# Altium schematic symbol library Transistor_FET.SchLib: 509 symbols (part 4 of 4)
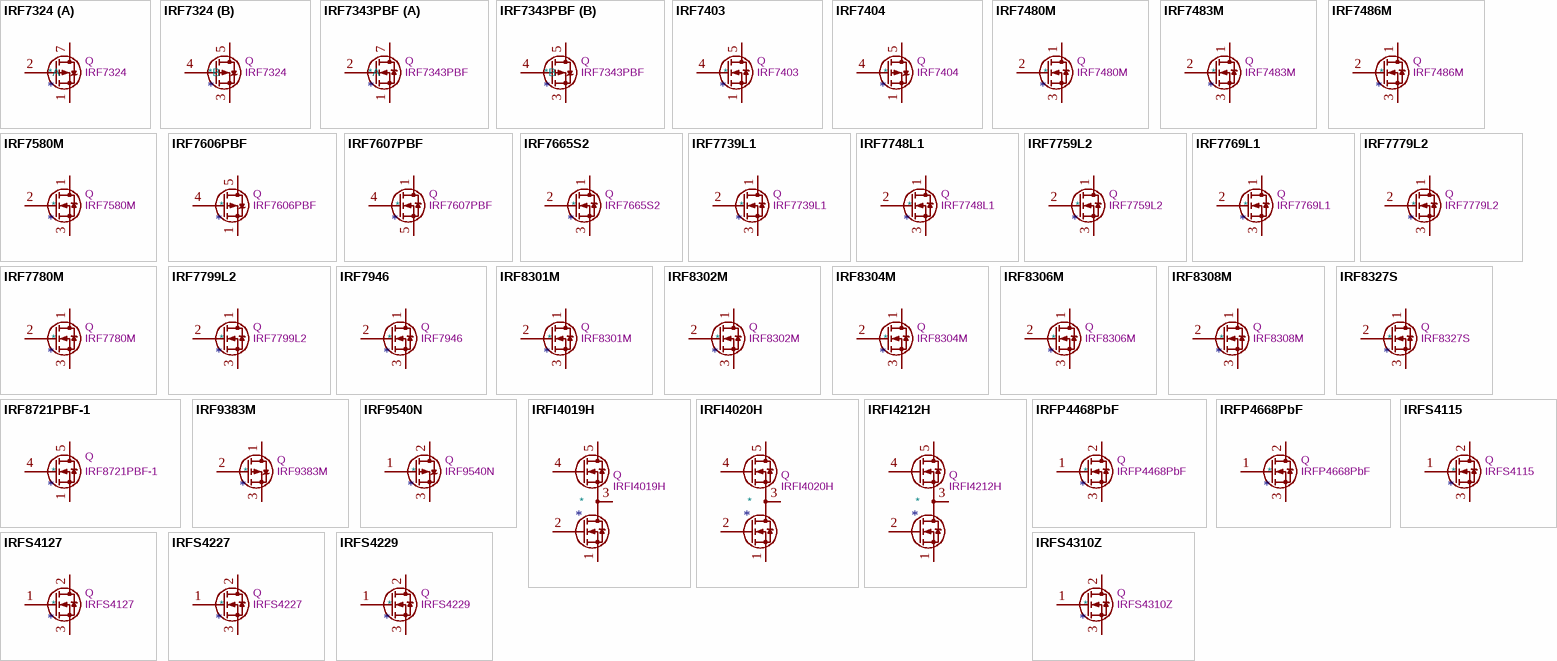
[diagram p16: symbols IRF7324 to IRFS4310Z]

## IRF8301M
designator *  value IRF8301M  Reference: Q
ki_keywords: N-Channel MOSFET; ki_description: 34A Id, 30V Vds, 1.5mOhm Rds, N-Channel MOSFET, DirectFET MT; ki_fp_filters: DirectFET*MT*; Footprint: Package_DirectFET:DirectFET_MT; Datasheet: https://www.infineon.com/dgdl/irf8301mpbf.pdf?fileId=5546d462533600a40153560d0e7a1d58
pins: 1 D, 2 G, 3 S

## IRF8302M
designator *  value IRF8302M  Reference: Q
ki_keywords: N-Channel MOSFET; ki_description: 31A Id, 30V Vds, 1.8mOhm Rds, N-Channel MOSFET, DirectFET MX; ki_fp_filters: DirectFET*MX*; Footprint: Package_DirectFET:DirectFET_MX; Datasheet: https://www.infineon.com/dgdl/irf8302mpbf.pdf?fileId=5546d462533600a40153560d16e41d5b
pins: 1 D, 2 G, 3 S

## IRF8304M
designator *  value IRF8304M  Reference: Q
ki_keywords: N-Channel MOSFET; ki_description: 28A Id, 30V Vds, 2.2mOhm Rds, N-Channel MOSFET, DirectFET MX; ki_fp_filters: DirectFET*MX*; Footprint: Package_DirectFET:DirectFET_MX; Datasheet: https://www.infineon.com/dgdl/irf8304mpbf.pdf?fileId=5546d462533600a40153560d20db1d5d
pins: 1 D, 2 G, 3 S

## IRF8306M
designator *  value IRF8306M  Reference: Q
ki_keywords: N-Channel MOSFET; ki_description: 23A Id, 30V Vds, 2.5mOhm Rds, N-Channel MOSFET, DirectFET MX; ki_fp_filters: DirectFET*MX*; Footprint: Package_DirectFET:DirectFET_MX; Datasheet: https://www.infineon.com/dgdl/irf8306mpbf.pdf?fileId=5546d462533600a40153560d29371d5f
pins: 1 D, 2 G, 3 S

## IRF8308M
designator *  value IRF8308M  Reference: Q
ki_keywords: N-Channel MOSFET; ki_description: 27A Id, 30V Vds, 2.5mOhm Rds, N-Channel MOSFET, DirectFET MX; ki_fp_filters: DirectFET*MX*; Footprint: Package_DirectFET:DirectFET_MX; Datasheet: https://www.infineon.com/dgdl/irf8308mpbf.pdf?fileId=5546d462533600a40153560d319d1d61
pins: 1 D, 2 G, 3 S

## IRF8327S
designator *  value IRF8327S  Reference: Q
ki_keywords: N-Channel MOSFET; ki_description: 13A Id, 30V Vds, 7.3mOhm Rds, N-Channel MOSFET, DirectFET SQ; ki_fp_filters: DirectFET*SQ*; Footprint: Package_DirectFET:DirectFET_SQ; Datasheet: https://www.infineon.com/dgdl/irf8327spbf.pdf?fileId=5546d462533600a40153560d40c41d65
pins: 1 D, 2 G, 3 S

## IRF8721PBF-1
designator *  value IRF8721PBF-1  Reference: Q
ki_keywords: HEXFET N-Channel MOSFET; ki_description: 14A Id, 30V Vds, HEXFET N-Channel MOSFET, SO-8; ki_fp_filters: SOIC*3.9x4.9mm*P1.27mm*; Footprint: Package_SO:SOIC-8_3.9x4.9mm_P1.27mm; Datasheet: http://www.irf.com/product-info/datasheets/data/irf8721pbf-1.pdf
pins: 1 S, 2 S hidden, 3 S hidden, 4 G, 5 D, 6 D hidden, 7 D hidden, 8 D hidden

## IRF9383M
designator *  value IRF9383M  Reference: Q
ki_keywords: P-Channel MOSFET; ki_description: -22A Id, -30V Vds, 2.9mOhm Rds, P-Channel MOSFET, DirectFET MX; ki_fp_filters: DirectFET*MX*; Footprint: Package_DirectFET:DirectFET_MX; Datasheet: https://www.infineon.com/dgdl/irf9383mpbf.pdf?fileId=5546d462533600a40153561169a11dab
pins: 1 D, 2 G, 3 S

## IRF9540N
designator *  value IRF9540N  Reference: Q
ki_keywords: P-Channel MOSFET HEXFET; ki_description: -23A Id, -100V Vds, 117mOhm Rds, P-Channel HEXFET Power MOSFET, TO-220; ki_fp_filters: TO?220*; Footprint: Package_TO_SOT_THT:TO-220-3_Vertical; Datasheet: http://www.irf.com/product-info/datasheets/data/irf9540n.pdf
pins: 1 G, 2 D, 3 S

## IRFI4019H
designator *  value IRFI4019H  Reference: Q
ki_keywords: Dual N-Channel MOSFET Half-Bridge; ki_description: 8.7A Id, 150V Vds, 80mOhm Rds, Dual Half Bridge N-Channel MOSFET, TO-220-5; ki_fp_filters: TO?220F*P3.4x2.06mm*StaggerEven*Lead1.86mm*; Footprint: Package_TO_SOT_THT:TO-220F-5_P3.4x2.06mm_StaggerEven_Lead1.86mm_Vertical; Datasheet: https://www.infineon.com/dgdl/irfi4019h-117p.pdf?fileId=5546d462533600a401535623d74d1f6f
pins: 1 S2, 2 G2, 3 S1/D2, 4 G1, 5 D1

## IRFI4020H
designator *  value IRFI4020H  Reference: Q
ki_keywords: Dual N-Channel MOSFET Half-Bridge; ki_description: 9.1A Id, 200V Vds, 80mOhm Rds, Dual Half Bridge N-Channel MOSFET, TO-220-5; ki_fp_filters: TO?220F*P3.4x2.06mm*StaggerEven*Lead1.86mm*; Footprint: Package_TO_SOT_THT:TO-220F-5_P3.4x2.06mm_StaggerEven_Lead1.86mm_Vertical; Datasheet: https://www.infineon.com/dgdl/irfi4020h-117p.pdf?fileId=5546d462533600a401535623e7271f73
pins: 1 S2, 2 G2, 3 S1/D2, 4 G1, 5 D1

## IRFI4212H
designator *  value IRFI4212H  Reference: Q
ki_keywords: Dual N-Channel MOSFET Half-Bridge; ki_description: 11A Id, 100V Vds, 58mOhm Rds, Dual Half Bridge N-Channel MOSFET, TO-220-5; ki_fp_filters: TO?220F*P3.4x2.06mm*StaggerEven*Lead1.86mm*; Footprint: Package_TO_SOT_THT:TO-220F-5_P3.4x2.06mm_StaggerEven_Lead1.86mm_Vertical; Datasheet: https://www.infineon.com/dgdl/irfi4212h-117p.pdf?fileId=5546d462533600a401535623fc841f7a
pins: 1 S2, 2 G2, 3 S1/D2, 4 G1, 5 D1

## IRFP4468PbF
designator *  value IRFP4468PbF  Reference: Q
ki_keywords: N-Channel Power MOSFET; ki_description: 195A Id, 100V Vds, N-Channel Power MOSFET, TO-247; ki_fp_filters: TO?247*; Footprint: Package_TO_SOT_THT:TO-247-3_Vertical; Datasheet: https://www.infineon.com/dgdl/irfp4468pbf.pdf?fileId=5546d462533600a40153562c73472019
pins: 1 G, 2 D, 3 S

## IRFP4668PbF
designator *  value IRFP4668PbF  Reference: Q
ki_keywords: N-Channel Power MOSFET; ki_description: 130A Id, 200V Vds, N-Channel Power MOSFET, TO-247; ki_fp_filters: TO?247*; Footprint: Package_TO_SOT_THT:TO-247-3_Vertical; Datasheet: https://www.infineon.com/dgdl/irfp4668pbf.pdf?fileId=5546d462533600a40153562c8528201d
pins: 1 G, 2 D, 3 S

## IRFS4115
designator *  value IRFS4115  Reference: Q
ki_keywords: N-Channel HEXFET MOSFET; ki_description: 99A Id, 150V Vds, 10.3mOhm Rds, N-Channel HEXFET Power MOSFET, D2PAK; ki_fp_filters: TO?263*; Footprint: Package_TO_SOT_SMD:TO-263-2; Datasheet: https://www.infineon.com/dgdl/irfs4115pbf.pdf?fileId=5546d462533600a401535636e5d2218f
pins: 1 G, 2 D, 3 S

## IRFS4127
designator *  value IRFS4127  Reference: Q
ki_keywords: N-Channel MOSFET; ki_description: 72A Id, 200V Vds, 18.6mOhm Rds, N-Channel MOSFET, 18.6mOhm Ron, D2PAK; ki_fp_filters: TO?263*; Footprint: Package_TO_SOT_SMD:TO-263-2; Datasheet: https://www.infineon.com/dgdl/irfs4127pbf.pdf?fileId=5546d462533600a401535636ee7b2192
pins: 1 G, 2 D, 3 S

## IRFS4227
designator *  value IRFS4227  Reference: Q
ki_keywords: N-Channel MOSFET; ki_description: 130A Id, 200V Vds, 22mOhm Rds, N-Channel MOSFET, D2PAK; ki_fp_filters: TO?263*; Footprint: Package_TO_SOT_SMD:TO-263-2; Datasheet: https://www.infineon.com/dgdl/irfs4227pbf.pdf?fileId=5546d462533600a401535639ef64219b
pins: 1 G, 2 D, 3 S

## IRFS4229
designator *  value IRFS4229  Reference: Q
ki_keywords: N-Channel MOSFET; ki_description: 91A Id, 250V Vds, 42mOhm Rds, N-Channel MOSFET, D2PAK; ki_fp_filters: TO?263*; Footprint: Package_TO_SOT_SMD:TO-263-2; Datasheet: https://www.infineon.com/dgdl/irfs4229pbf.pdf?fileId=5546d462533600a401535639fdc421a1
pins: 1 G, 2 D, 3 S

## IRFS4310Z
designator *  value IRFS4310Z  Reference: Q
ki_keywords: N-Channel MOSFET; ki_description: 120A Id, 100V Vds, 4.8mOhm Rds, N-Channel HEXFET Power MOSFET, D2PAK; ki_fp_filters: TO?263*; Footprint: Package_TO_SOT_SMD:TO-263-2; Datasheet: https://www.infineon.com/dgdl/irfb4310zpbf.pdf?fileId=5546d462533600a4015356161b4d1e2d
pins: 1 G, 2 D, 3 S

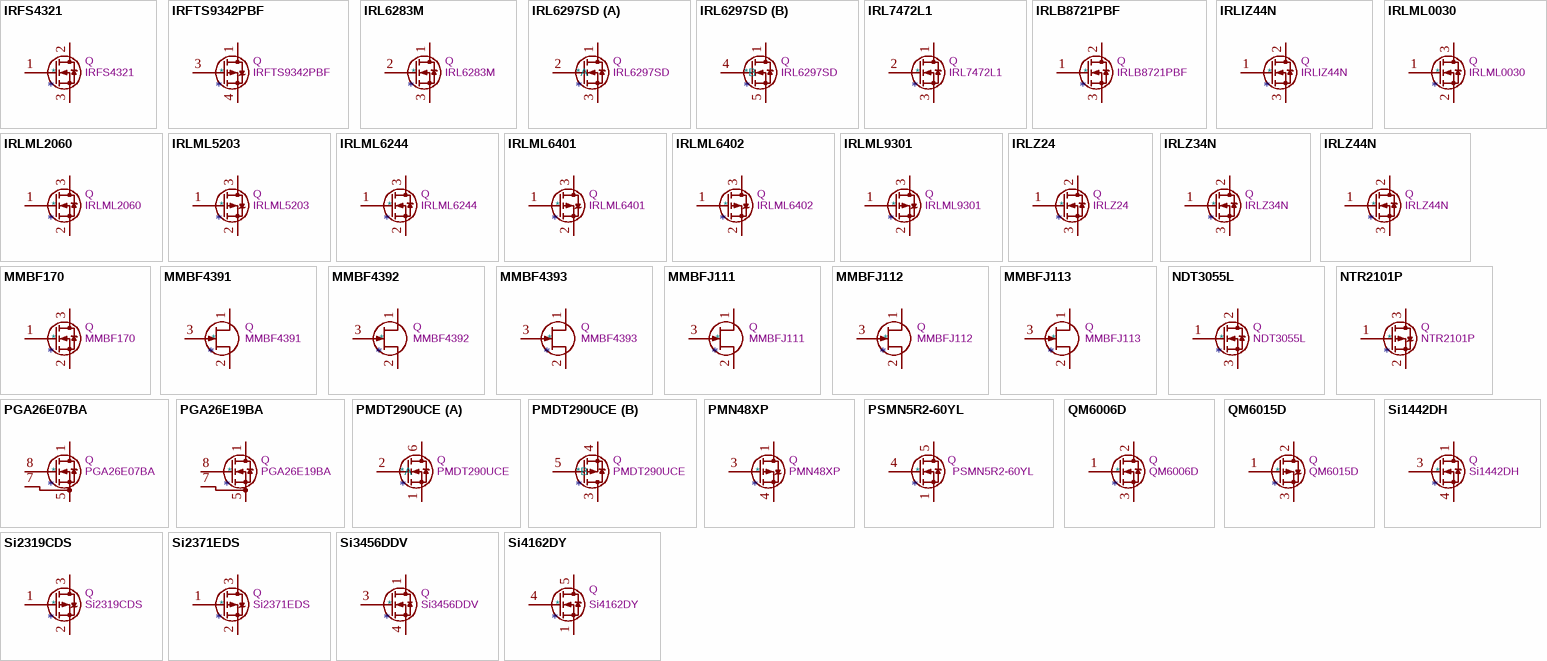
[diagram p11: symbols IRFS4321 to Si4162DY]

## IRFS4321
designator *  value IRFS4321  Reference: Q
ki_keywords: N-Channel MOSFET HEXFET; ki_description: 85A Id, 150V Vds, 12mOhm Rds, N-Channel HEXFET Power MOSFET, D2PAK; ki_fp_filters: TO?263*; Footprint: Package_TO_SOT_SMD:TO-263-2; Datasheet: https://www.infineon.com/dgdl/irfs4321pbf.pdf?fileId=5546d462533600a40153563a20dd21ad
pins: 1 G, 2 D, 3 S

## IRFTS9342PBF
designator *  value IRFTS9342PBF  Reference: Q
ki_keywords: P-Channel MOSFET HEXFET; ki_description: -5.8A Id, -30V Vds, 40mOhm Rds, P-Channel HEXFET Power MOSFET, TSOP-6; ki_fp_filters: TSOP*1.65x3.05mm*P0.95mm*; Footprint: Package_SO:TSOP-6_1.65x3.05mm_P0.95mm; Datasheet: https://www.infineon.com/dgdl/irfts9342pbf.pdf?fileId=5546d462533600a40153563aeabc21f3
pins: 1 D, 2 D hidden, 3 G, 4 S, 5 D hidden, 6 D hidden

## IRL6283M
designator *  value IRL6283M  Reference: Q
ki_keywords: N-Channel HEXFET MOSFET IRFET; ki_description: 38A Id, 20V Vds, 0.75mOhm Rds, N-Channel HEXFET Power MOSFET, DirectFET MD; ki_fp_filters: DirectFET*MD*; Footprint: Package_DirectFET:DirectFET_MD; Datasheet: https://www.infineon.com/dgdl/irl6283mpbf.pdf?fileId=5546d462533600a40153565fe9452573
pins: 1 D, 2 G, 3 S

## IRL6297SD
designator *  value IRL6297SD  Reference: Q
ki_keywords: Dual N-Channel HEXFET MOSFET Logic-Level; ki_description: 15A Id, 20V Vds, 4.9mOhm Rds, Dual N-Channel HEXFET Power MOSFET, DirectFET SA; ki_fp_filters: DirectFET*SA*; Footprint: Package_DirectFET:DirectFET_SA; Datasheet: https://www.infineon.com/dgdl/irl6297sdpbf.pdf?fileId=5546d462533600a40153565ff22f2575
part A pins: 1 D, 2 G1, 3 S1
part B pins: 1 D, 4 G2, 5 S2

## IRL7472L1
designator *  value IRL7472L1  Reference: Q
ki_keywords: N-Channel HEXFET MOSFET Logic-Level IRFET; ki_description: 375A Id, 40V Vds, 0.45mOhm Rds, N-Channel HEXFET Power MOSFET, DirectFET L8; ki_fp_filters: DirectFET*L8*; Footprint: Package_DirectFET:DirectFET_L8; Datasheet: https://www.infineon.com/dgdl/Infineon-IRL7472L1-DS-v02_00-EN.pdf?fileId=5546d46254e133b401555d17178250d8
pins: 1 D, 2 G, 3 S

## IRLB8721PBF
designator *  value IRLB8721PBF  Reference: Q
ki_keywords: N-Channel HEXFET MOSFET Logic-Level; ki_description: 62A Id, 30V Vds, 8.7 mOhm Rds, N-Channel HEXFET Power MOSFET, TO-220; ki_fp_filters: TO?220*; Footprint: Package_TO_SOT_THT:TO-220-3_Vertical; Datasheet: http://www.infineon.com/dgdl/irlb8721pbf.pdf?fileId=5546d462533600a40153566056732591
pins: 1 G, 2 D, 3 S

## IRLIZ44N
designator *  value IRLIZ44N  Reference: Q
ki_keywords: N-Channel HEXFET MOSFET Logic-Level; ki_description: 30A Id, 55V Vds, 22mOhm Rds, N-Channel HEXFET Power MOSFET, TO-220AB; ki_fp_filters: TO?220F*; Footprint: Package_TO_SOT_THT:TO-220F-3_Vertical; Datasheet: http://www.irf.com/product-info/datasheets/data/irliz44n.pdf
pins: 1 G, 2 D, 3 S

## IRLML0030
designator *  value IRLML0030  Reference: Q
ki_keywords: N-Channel HEXFET MOSFET Logic-Level; ki_description: 5.3A Id, 30V Vds, 27mOhm Rds, N-Channel HEXFET Power MOSFET, SOT-23; ki_fp_filters: SOT?23*; Footprint: Package_TO_SOT_SMD:SOT-23; Datasheet: https://www.infineon.com/dgdl/irlml0030pbf.pdf?fileId=5546d462533600a401535664773825df
pins: 1 G, 2 S, 3 D

## IRLML2060
designator *  value IRLML2060  Reference: Q
ki_keywords: N-Channel HEXFET MOSFET; ki_description: 1.2A Id, 60V Vds, 480mOhm Rds, N-Channel HEXFET Power MOSFET, SOT-23; ki_fp_filters: SOT?23*; Footprint: Package_TO_SOT_SMD:SOT-23; Datasheet: https://www.infineon.com/dgdl/irlml2060pbf.pdf?fileId=5546d462533600a401535664b7fb25ee
pins: 1 G, 2 S, 3 D

## IRLML5203
designator *  value IRLML5203  Reference: Q
ki_keywords: P-Channel HEXFET MOSFET; ki_description: -3.0A Id, -30V Vds, 98mOhm Rds, P-Channel HEXFET Power MOSFET, SOT-23; ki_fp_filters: SOT?23*; Footprint: Package_TO_SOT_SMD:SOT-23; Datasheet: https://www.infineon.com/dgdl/irlml5203pbf.pdf?fileId=5546d462533600a40153566868da261d
pins: 1 G, 2 S, 3 D

## IRLML6244
designator *  value IRLML6244  Reference: Q
ki_keywords: N-Channel StrongIRFET MOSFET Load switch; ki_description: 6.3A Id, 20V Vds, 21mOhm Rds, N-Channel StrongIRFET Power MOSFET, SOT-23; ki_fp_filters: SOT?23*; Footprint: Package_TO_SOT_SMD:SOT-23; Datasheet: https://www.infineon.com/dgdl/Infineon-IRLML6244-DataSheet-v01_01-EN.pdf?fileId=5546d462533600a4015356686fed261f
pins: 1 G, 2 S, 3 D

## IRLML6401
designator *  value IRLML6401  Reference: Q
ki_keywords: P-Channel HEXFET MOSFET Logic-Level; ki_description: -4.3A Id, -12V Vds, 50mOhm Rds, P-Channel HEXFET Power MOSFET, SOT-23; ki_fp_filters: SOT?23*; Footprint: Package_TO_SOT_SMD:SOT-23; Datasheet: https://www.infineon.com/dgdl/irlml6401pbf.pdf?fileId=5546d462533600a401535668b96d2634
pins: 1 G, 2 S, 3 D

## IRLML6402
designator *  value IRLML6402  Reference: Q
ki_keywords: P-Channel HEXFET MOSFET; ki_description: -3.7A Id, -20V Vds, 65mOhm Rds, P-Channel HEXFET Power MOSFET, SOT-23; ki_fp_filters: SOT?23*; Footprint: Package_TO_SOT_SMD:SOT-23; Datasheet: https://www.infineon.com/dgdl/irlml6402pbf.pdf?fileId=5546d462533600a401535668d5c2263c
pins: 1 G, 2 S, 3 D

## IRLML9301
designator *  value IRLML9301  Reference: Q
ki_keywords: P-Channel HEXFET MOSFET Logic-Level; ki_description: -3.6A Id, -30V Vds, 64mOhm Rds, P-Channel HEXFET Power MOSFET, SOT-23; ki_fp_filters: SOT?23*; Footprint: Package_TO_SOT_SMD:SOT-23; Datasheet: https://www.infineon.com/dgdl/irlml9301pbf.pdf?fileId=5546d462533600a401535668e5e42640
pins: 1 G, 2 S, 3 D

## IRLZ24
designator *  value IRLZ24  Reference: Q
ki_keywords: N-Channel Power MOSFET; ki_description: 17A Id, 60V Vds, N-Channel Power MOSFET, TO-220AB; ki_fp_filters: TO?220*; Footprint: Package_TO_SOT_THT:TO-220-3_Vertical; Datasheet: https://www.vishay.com/docs/91326/sihlz24.pdf
pins: 1 G, 2 D, 3 S

## IRLZ34N
designator *  value IRLZ34N  Reference: Q
ki_keywords: N-Channel HEXFET MOSFET Logic-Level; ki_description: 30A Id, 55V Vds, 35mOhm Rds, N-Channel HEXFET Power MOSFET, TO-220AB; ki_fp_filters: TO?220*; Footprint: Package_TO_SOT_THT:TO-220-3_Vertical; Datasheet: http://www.infineon.com/dgdl/irlz34npbf.pdf?fileId=5546d462533600a40153567206892720
pins: 1 G, 2 D, 3 S

## IRLZ44N
designator *  value IRLZ44N  Reference: Q
ki_keywords: N-Channel HEXFET MOSFET Logic-Level; ki_description: 47A Id, 55V Vds, 22mOhm Rds Single N-Channel HEXFET Power MOSFET, TO-220AB; ki_fp_filters: TO?220*; Footprint: Package_TO_SOT_THT:TO-220-3_Vertical; Datasheet: http://www.irf.com/product-info/datasheets/data/irlz44n.pdf
pins: 1 G, 2 D, 3 S

## MMBF170
designator *  value MMBF170  Reference: Q
ki_keywords: N-Channel MOSFET; ki_description: 0.5A Id, 60V Vds, N-Channel MOSFET, SOT-23; ki_fp_filters: SOT?23*; Footprint: Package_TO_SOT_SMD:SOT-23; Datasheet: https://www.diodes.com/assets/Datasheets/ds30104.pdf
pins: 1 G, 2 S, 3 D

## MMBF4391
designator *  value MMBF4391  Reference: Q
ki_keywords: N-Channel FET Transistor; ki_description: 50mA min, 30V, 30mOhm max, 4-10V Vgs(off), N-Channel JFET, SOT-23; ki_fp_filters: SOT?23*; Footprint: Package_TO_SOT_SMD:SOT-23; Datasheet: https://www.onsemi.com/pub/Collateral/MMBF4391LT1-D.PDF
pins: 1 D, 2 S, 3 G

## MMBF4392
designator *  value MMBF4392  Reference: Q
ki_keywords: N-Channel FET Transistor; ki_description: 25mA min, 30V, 60mOhm max, 2-5V Vgs(off), N-Channel JFET, SOT-23; ki_fp_filters: SOT?23*; Footprint: Package_TO_SOT_SMD:SOT-23; Datasheet: https://www.onsemi.com/pub/Collateral/MMBF4391LT1-D.PDF
pins: 1 D, 2 S, 3 G

## MMBF4393
designator *  value MMBF4393  Reference: Q
ki_keywords: N-Channel FET Transistor; ki_description: 5mA min, 30V, 100mOhm max, 0.5-3V Vgs(off), N-Channel JFET, SOT-23; ki_fp_filters: SOT?23*; Footprint: Package_TO_SOT_SMD:SOT-23; Datasheet: https://www.onsemi.com/pub/Collateral/MMBF4391LT1-D.PDF
pins: 1 D, 2 S, 3 G

## MMBFJ111
designator *  value MMBFJ111  Reference: Q
ki_keywords: N-Channel FET Transistor; ki_description: 20mA min, 35V, 30mOhm max, 3-10V Vgs(off), N-Channel JFET, SOT-23; ki_fp_filters: SOT?23*; Footprint: Package_TO_SOT_SMD:SOT-23; Datasheet: https://www.onsemi.com/pub/Collateral/MMBFJ113-D.PDF
pins: 1 D, 2 S, 3 G

## MMBFJ112
designator *  value MMBFJ112  Reference: Q
ki_keywords: N-Channel FET Transistor; ki_description: 5mA min, 35V, 50mOhm max, 1-5V Vgs(off), N-Channel JFET, SOT-23; ki_fp_filters: SOT?23*; Footprint: Package_TO_SOT_SMD:SOT-23; Datasheet: https://www.onsemi.com/pub/Collateral/MMBFJ113-D.PDF
pins: 1 D, 2 S, 3 G

## MMBFJ113
designator *  value MMBFJ113  Reference: Q
ki_keywords: N-Channel FET Transistor; ki_description: 2mA min, 35V, 100mOhm max, 0.5-3V Vgs(off), N-Channel JFET, SOT-23; ki_fp_filters: SOT?23*; Footprint: Package_TO_SOT_SMD:SOT-23; Datasheet: https://www.onsemi.com/pub/Collateral/MMBFJ113-D.PDF
pins: 1 D, 2 S, 3 G

## NDT3055L
designator *  value NDT3055L  Reference: Q
ki_keywords: n channel fet; ki_description: 4A Id, 60V Vds, N-Channel Logic Level Enhancement Mode MOSFET, SOT-223; ki_fp_filters: SOT?223*; Footprint: Package_TO_SOT_SMD:SOT-223-3_TabPin2; Datasheet: https://www.onsemi.com/pdf/datasheet/ndt3055l-d.pdf
pins: 1 G, 2 D, 3 S

## NTR2101P
designator *  value NTR2101P  Reference: Q
ki_keywords: P-Channel MOSFET; ki_description: -3.7A Id, -8V Vds, P-Channel MOSFET, SOT-23; ki_fp_filters: SOT?23*; Footprint: Package_TO_SOT_SMD:SOT-23; Datasheet: http://www.onsemi.com/pub/Collateral/NTR2101P-D.PDF
pins: 1 G, 2 S, 3 D

## PGA26E07BA
designator *  value PGA26E07BA  Reference: Q
ki_keywords: N-Channel GaN MOSFET; ki_description: 26A Id, 600V Vds, 56mOhm, N-Channel GaN MOSFET, DFN-8; ki_fp_filters: Panasonic*HSON*8x8mm*P2.00mm*; Footprint: Package_DFN_QFN:Panasonic_HSON-8_8x8mm_P2.00mm; Datasheet: https://industrial.panasonic.com/content/data/SC/ds/ds4/PGA26E07BA_E.pdf
pins: 1 D, 2 D hidden, 3 D hidden, 4 D hidden, 5 S2, 6 S2 hidden, 7 S1, 8 G, 9 S2 hidden

## PGA26E19BA
designator *  value PGA26E19BA  Reference: Q
ki_keywords: N-Channel GaN MOSFET; ki_description: 13A Id, 600V Vds, 140mOhm, N-Channel GaN MOSFET, DFN-8; ki_fp_filters: Panasonic*HSON*8x8mm*P2.00mm*; Footprint: Package_DFN_QFN:Panasonic_HSON-8_8x8mm_P2.00mm; Datasheet: https://industrial.panasonic.com/content/data/SC/ds/ds4/PGA26E19BA_E.pdf
pins: 1 D, 2 D hidden, 3 D hidden, 4 D hidden, 5 S2, 6 S2 hidden, 7 S1, 8 G, 9 S2 hidden

## PMDT290UCE
designator *  value PMDT290UCE  Reference: Q
ki_keywords: Trench MOSFET complementary nmos pmos nexperia; ki_description: Nexperia 20 / 20 V, 800 / 550 mA N/P-channel Trench MOSFET, SOT-666; ki_fp_filters: SOT?666*; Footprint: Package_TO_SOT_SMD:SOT-666; Datasheet: https://assets.nexperia.com/documents/data-sheet/PMDT290UCE.pdf
part A pins: 1 SN, 2 GN, 6 DN
part B pins: 3 DP, 4 SP, 5 GP

## PMN48XP
designator *  value PMN48XP  Reference: Q
ki_keywords: P-Channel MOSFET; ki_description: -4.1A Id, -20V Vds, P-Channel Power MOSFET, 48mOhm Ron, SC-74-6; ki_fp_filters: TSOP*1.65x3.05mm*P0.95mm*; Footprint: Package_SO:TSOP-6_1.65x3.05mm_P0.95mm; Datasheet: https://assets.nexperia.com/documents/data-sheet/PMN48XP.pdf
pins: 1 D, 2 D hidden, 3 G, 4 S, 5 D hidden, 6 D hidden

## PSMN5R2-60YL
designator *  value PSMN5R2-60YL  Reference: Q
ki_keywords: N-Channel MOSFET; ki_description: 100A, 60V Vds, N-Channel MOSFET, 5.2mOhm Ron, LFPAK56; ki_fp_filters: LFPAK56*; Footprint: Package_TO_SOT_SMD:LFPAK56; Datasheet: https://assets.nexperia.com/documents/data-sheet/PSMN5R2-60YL.pdf
pins: 1 S, 2 S hidden, 3 S hidden, 4 G, 5 D

## QM6006D
designator *  value QM6006D  Reference: Q
ki_keywords: N-Channel MOSFET; ki_description: 35A Id, 60V Vds, N-Channel Power MOSFET, 18mOhm Ron, 19.3nC Qg (typ), TO252; ki_fp_filters: TO?252*; Footprint: Package_TO_SOT_SMD:TO-252-2; Datasheet: http://www.jaolen.com/images/pdf/QM6006D.pdf
pins: 1 G, 2 D, 3 S

## QM6015D
designator *  value QM6015D  Reference: Q
ki_keywords: P-Channel MOSFET; ki_description: -35A Id, -60V Vds, P-Channel Power MOSFET, 25mOhm Ron, 25.0nC Qg (typ), TO252; ki_fp_filters: TO?252*; Footprint: Package_TO_SOT_SMD:TO-252-2; Datasheet: http://www.jaolen.com/images/pdf/QM6015D.pdf
pins: 1 G, 2 D, 3 S

## Si1442DH
designator *  value Si1442DH  Reference: Q
ki_keywords: TrenchFET N-Channel Power MOSFET; ki_description: 12V Vds, TrenchFET N-Channel Power MOSFET, SC-70-6; ki_fp_filters: SOT?363*; Footprint: Package_TO_SOT_SMD:SOT-363_SC-70-6; Datasheet: http://www.vishay.com/docs/63772/si1442dh.pdf
pins: 1 D, 2 D hidden, 3 G, 4 S, 5 D hidden, 6 D hidden

## Si2319CDS
designator *  value Si2319CDS  Reference: Q
ki_keywords: P-Channel MOSFET; ki_description: -4.4A Id, -40V Vds, P-Channel MOSFET, SOT-23; ki_fp_filters: SOT?23*; Footprint: Package_TO_SOT_SMD:SOT-23; Datasheet: http://www.vishay.com/docs/66709/si2319cd.pdf
pins: 1 G, 2 S, 3 D

## Si2371EDS
designator *  value Si2371EDS  Reference: Q
ki_keywords: P-Channel MOSFET; ki_description: -3.6A Id, -30V Vds, P-Channel MOSFET, SOT-23; ki_fp_filters: SOT?23*; Footprint: Package_TO_SOT_SMD:SOT-23; Datasheet: http://www.vishay.com/docs/63924/si2371eds.pdf
pins: 1 G, 2 S, 3 D

## Si3456DDV
designator *  value Si3456DDV  Reference: Q
ki_keywords: N-Channel MOSFET; ki_description: 30V Vds, 6.3A Id, N-Channel MOSFET, TSOP-6; ki_fp_filters: TSOP*1.65x3.05mm*P0.95mm*; Footprint: Package_SO:TSOP-6_1.65x3.05mm_P0.95mm; Datasheet: https://www.vishay.com/docs/69075/si3456ddv.pdf
pins: 1 D, 2 D hidden, 3 G, 4 S, 5 D hidden, 6 D hidden

## Si4162DY
designator *  value Si4162DY  Reference: Q
ki_keywords: N-Channel MOSFET; ki_description: 19.3A Id, 30V Vds, TrenchFET N-Channel Power MOSFET, SO-8; ki_fp_filters: SOIC*3.9x4.9mm*P1.27mm*; Footprint: Package_SO:SOIC-8_3.9x4.9mm_P1.27mm; Datasheet: http://www.vishay.com/docs/68967/si4162dy.pdf
pins: 1 S, 2 S hidden, 3 S hidden, 4 G, 5 D, 6 D hidden, 7 D hidden, 8 D hidden

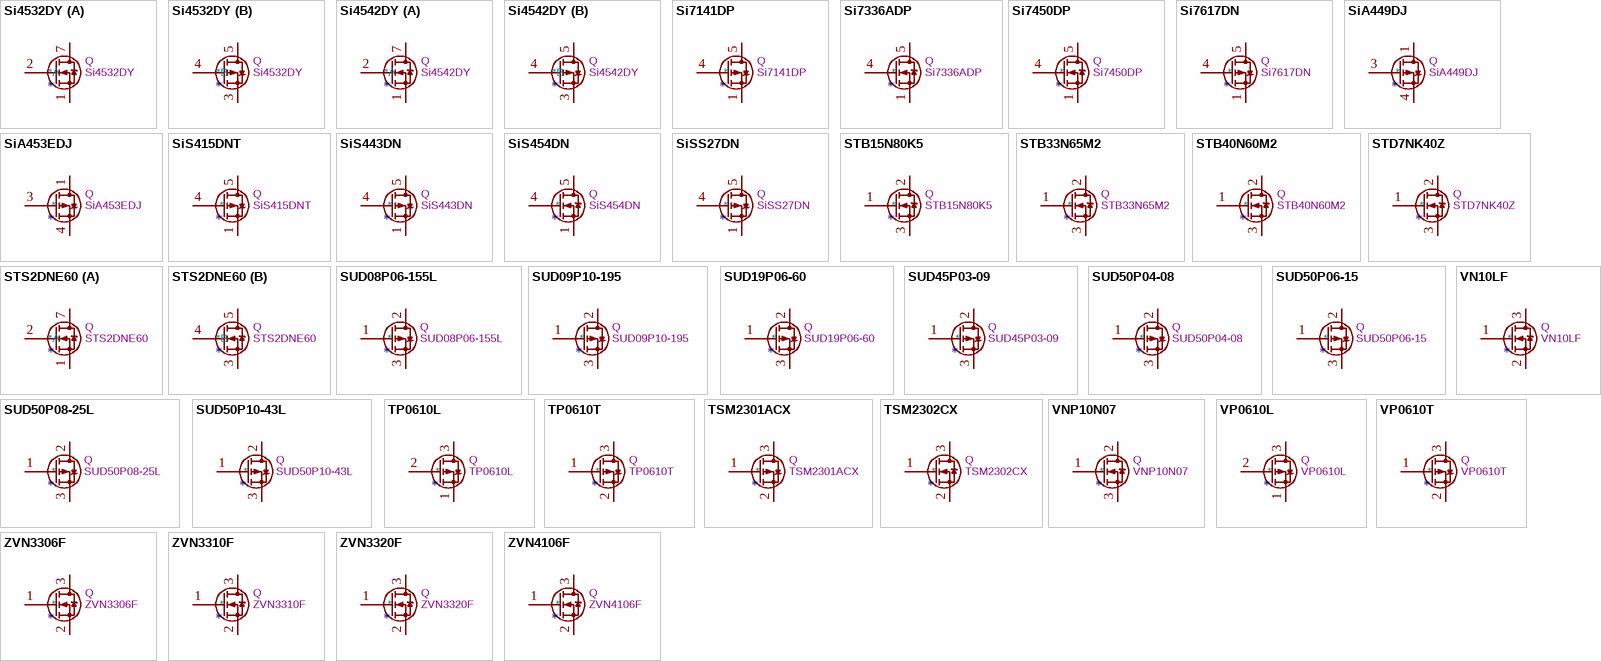
[diagram p12: symbols Si4532DY to ZVN4106F]

## Si4532DY
designator *  value Si4532DY  Reference: Q
ki_keywords: Dual N-Channel P-Channel MOSFET; ki_description: 3.9A Id, 30V Vds, Dual N and P Channel MOSFET, 65mOhm Ron, 10V Vgs, SO8L; ki_fp_filters: SOIC*3.9x4.9mm*P1.27mm*; Footprint: Package_SO:SOIC-8_3.9x4.9mm_P1.27mm; Datasheet: https://www.onsemi.com/pub/Collateral/SI4532DY-D.PDF
part A pins: 1 S, 2 G, 7 D, 8 D hidden
part B pins: 3 1, 4 G, 5 D, 6 D hidden

## Si4542DY
designator *  value Si4542DY  Reference: Q
ki_keywords: Dual N-Channel P-Channel MOSFET; ki_description: Dual N and P Channel MOSFET, 6A Id, 30V Vds, 28mOhm Ron, 10V Vgs, SO8L; ki_fp_filters: SOIC*3.9x4.9mm*P1.27mm*; Footprint: Package_SO:SOIC-8_3.9x4.9mm_P1.27mm; Datasheet: https://www.onsemi.com/pub/Collateral/SI4542DY-D.PDF
part A pins: 1 S, 2 G, 7 D, 8 D hidden
part B pins: 3 1, 4 G, 5 D, 6 D hidden

## Si7141DP
designator *  value Si7141DP  Reference: Q
ki_keywords: P-Channel MOSFET; ki_description: 60A Id, 20V Vds, 1.9 mOhm Ron, PowerPAK-8; ki_fp_filters: PowerPAK*SO*Single*; Footprint: Package_SO:PowerPAK_SO-8_Single; Datasheet: https://www.vishay.com/docs/65596/si7141dp.pdf
pins: 1 S, 2 S hidden, 3 S hidden, 4 G, 5 D

## Si7336ADP
designator *  value Si7336ADP  Reference: Q
ki_keywords: N-Channel MOSFET; ki_description: 30A Id, 30V Vds, 2.4mOhm Ron, PowerPAK-8; ki_fp_filters: PowerPAK*SO*Single*; Footprint: Package_SO:PowerPAK_SO-8_Single; Datasheet: https://www.vishay.com/docs/73152/si7336adp.pdf
pins: 1 S, 2 S hidden, 3 S hidden, 4 G, 5 D

## Si7450DP
designator *  value Si7450DP  Reference: Q
ki_keywords: N-Channel MOSFET; ki_description: 5.3A Id, 200V Vds, 80mOhm Ron, PowerPAK-8; ki_fp_filters: PowerPAK*SO*Single*; Footprint: Package_SO:PowerPAK_SO-8_Single; Datasheet: https://www.vishay.com/docs/71432/si7450dp.pdf
pins: 1 S, 2 S hidden, 3 S hidden, 4 G, 5 D

## Si7617DN
designator *  value Si7617DN  Reference: Q
ki_keywords: P-Channel MOSFET; ki_description: 35A Id, 30V Vds, 0.0123 Ohm Ron, PowerPAK-8; ki_fp_filters: Vishay*PowerPAK*1212*Single*; Footprint: Package_SO:Vishay_PowerPAK_1212-8_Single; Datasheet: https://www.vishay.com/docs/65164/si7617dn.pdf
pins: 1 S, 2 S hidden, 3 S hidden, 4 G, 5 D

## SiA449DJ
designator *  value SiA449DJ  Reference: Q
ki_keywords: P-Channel MOSFET; ki_description: -12A Id, -30V Vds, P-Channel MOSFET, PowerPAK SC70-6; ki_fp_filters: Vishay*PowerPAK*SC70*Single*; Footprint: Package_TO_SOT_SMD:Vishay_PowerPAK_SC70-6L_Single; Datasheet: http://www.vishay.com/docs/62644/sia449dj.pdf
pins: 1 D, 3 G, 4 S

## SiA453EDJ
designator *  value SiA453EDJ  Reference: Q
ki_keywords: P-Channel MOSFET; ki_description: -10A Id, -30V Vds, P-Channel MOSFET; ki_fp_filters: Vishay*PowerPAK*SC70*Single*; Footprint: Package_TO_SOT_SMD:Vishay_PowerPAK_SC70-6L_Single; Datasheet: http://www.vishay.com/docs/62864/sia453edj.pdf
pins: 1 D, 3 G, 4 S

## SiS415DNT
designator *  value SiS415DNT  Reference: Q
ki_keywords: P-Channel MOSFET; ki_description: -35A Id, -20V Vds, P-Channel MOSFET, PowerPAK 1212-8 Single; ki_fp_filters: Vishay*PowerPAK*1212*Single*; Footprint: Package_SO:Vishay_PowerPAK_1212-8_Single; Datasheet: https://www.vishay.com/docs/63684/sis415dnt.pdf
pins: 1 S, 2 S hidden, 3 S hidden, 4 G, 5 D

## SiS443DN
designator *  value SiS443DN  Reference: Q
ki_keywords: P-Channel MOSFET; ki_description: -35A Id, -40V Vds, P-Channel MOSFET, PowerPAK 1212-8 Single; ki_fp_filters: Vishay*PowerPAK*1212*Single*; Footprint: Package_SO:Vishay_PowerPAK_1212-8_Single; Datasheet: https://www.vishay.com/docs/63253/sis443dn.pdf
pins: 1 S, 2 S hidden, 3 S hidden, 4 G, 5 D

## SiS454DN
designator *  value SiS454DN  Reference: Q
ki_keywords: N-Channel MOSFET; ki_description: 35A Id, 20V Vds, N-Channel MOSFET, PowerPAK 1212-8 Single; ki_fp_filters: Vishay*PowerPAK*1212*Single*; Footprint: Package_SO:Vishay_PowerPAK_1212-8_Single; Datasheet: https://www.vishay.com/docs/66707/sis454dn.pdf
pins: 1 S, 2 S hidden, 3 S hidden, 4 G, 5 D

## SiSS27DN
designator *  value SiSS27DN  Reference: Q
ki_keywords: P-Channel MOSFET; ki_description: -50A Id, -30V Vds, P-Channel MOSFET, PowerPAK 1212-8 Single; ki_fp_filters: Vishay*PowerPAK*1212*Single*; Footprint: Package_SO:Vishay_PowerPAK_1212-8_Single; Datasheet: http://www.vishay.com/docs/62847/siss27dn.pdf
pins: 1 S, 2 S hidden, 3 S hidden, 4 G, 5 D

## STB15N80K5
designator *  value STB15N80K5  Reference: Q
ki_keywords: N-Channel MOSFET; ki_description: 14A Id, 800V Vds, N-Channel MOSFET, 375mOhm Ron, D2PAK; ki_fp_filters: TO?263*; Footprint: Package_TO_SOT_SMD:TO-263-2; Datasheet: https://www.st.com/resource/en/datasheet/stb15n80k5.pdf
pins: 1 G, 2 D, 3 S

## STB33N65M2
designator *  value STB33N65M2  Reference: Q
ki_keywords: N-Channel MOSFET; ki_description: 24A Id, 650V Vds, N-Channel MDmesh M2 MOSFET, 140mOhm Ron, D2PAK; ki_fp_filters: TO?263*; Footprint: Package_TO_SOT_SMD:TO-263-2; Datasheet: https://www.st.com/resource/en/datasheet/stb33n65m2.pdf
pins: 1 G, 2 D, 3 S

## STB40N60M2
designator *  value STB40N60M2  Reference: Q
ki_keywords: N-Channel MOSFET; ki_description: 34A Id, 600V Vds, N-Channel MDmesh M2 MOSFET, 78mOhm Ron, D2PAK; ki_fp_filters: TO?263*; Footprint: Package_TO_SOT_SMD:TO-263-2; Datasheet: https://www.st.com/resource/en/datasheet/stp40n60m2.pdf
pins: 1 G, 2 D, 3 S

## STD7NK40Z
designator *  value STD7NK40Z  Reference: Q
ki_keywords: N-Channel MOSFET; ki_description: 5.4A Id, 400V Vds, N-Channel MOSFET, 1Ohm Ron, DPAK; ki_fp_filters: TO?252*; Footprint: Package_TO_SOT_SMD:TO-252-2; Datasheet: https://www.st.com/resource/en/datasheet/std7nk40zt4.pdf
pins: 1 G, 2 D, 3 S

## STS2DNE60
designator *  value STS2DNE60  Reference: Q
ki_keywords: Dual N-Channel MOSFET; ki_description: 2A Id, 60V Vds, Dual N-Channel MOSFET, 180mOhm Ron, SO-8; ki_fp_filters: SOIC*3.9x4.9mm*P1.27mm*; Footprint: Package_SO:SOIC-8_3.9x4.9mm_P1.27mm; Datasheet: https://www.st.com/resource/en/datasheet/CD00001537.pdf
part A pins: 1 S1, 2 G1, 7 D1, 8 D1 hidden
part B pins: 3 S2, 4 G2, 5 D2, 6 D2 hidden

## SUD08P06-155L
designator *  value SUD08P06-155L  Reference: Q
ki_keywords: TrenchFET P-Channel Power MOSFET; ki_description: 8.4A Id, 60V Vds, TrenchFET P-Channel Power MOSFET, 155mOhm Ron, 19nC Qg, -55 to 150 °C, TO-252-2; ki_fp_filters: TO?252*; Footprint: Package_TO_SOT_SMD:TO-252-2; Datasheet: https://www.vishay.com/docs/62843/sud08p06-155l-ge3.pdf
pins: 1 G, 2 D, 3 S

## SUD09P10-195
designator *  value SUD09P10-195  Reference: Q
ki_keywords: TrenchFET P-Channel Power MOSFET; ki_description: 8.8A Id, 100V Vds, TrenchFET P-Channel Power MOSFET, 195mOhm Ron, 34.8nC Qg, -55 to 150 °C, TO-252-2; ki_fp_filters: TO?252*; Footprint: Package_TO_SOT_SMD:TO-252-2; Datasheet: https://www.vishay.com/docs/65903/SUD09P10.pdf
pins: 1 G, 2 D, 3 S

## SUD19P06-60
designator *  value SUD19P06-60  Reference: Q
ki_keywords: TrenchFET P-Channel Power MOSFET; ki_description: 19A Id, 60V Vds, TrenchFET P-Channel Power MOSFET, 60mOhm Ron, 40nC Qg, -55 to 150 °C, TO-252-2; ki_fp_filters: TO?252*; Footprint: Package_TO_SOT_SMD:TO-252-2; Datasheet: https://www.vishay.com/docs/69253/sud19p06.pdf
pins: 1 G, 2 D, 3 S

## SUD45P03-09
designator *  value SUD45P03-09  Reference: Q
ki_keywords: TrenchFET P-Channel Power MOSFET; ki_description: 45A Id, 30V Vds, TrenchFET P-Channel Power MOSFET, 8.7mOhm Ron, 90nC Qg, -55 to 150 °C, TO-252-2; ki_fp_filters: TO?252*; Footprint: Package_TO_SOT_SMD:TO-252-2; Datasheet: https://www.vishay.com/docs/65595/sud45p03.pdf
pins: 1 G, 2 D, 3 S

## SUD50P04-08
designator *  value SUD50P04-08  Reference: Q
ki_keywords: TrenchFET P-Channel Power MOSFET; ki_description: 50A Id, 40V Vds, TrenchFET P-Channel Power MOSFET, 8.1mOhm Ron, 159nC Qg, -55 to 150 °C, TO-252-2; ki_fp_filters: TO?252*; Footprint: Package_TO_SOT_SMD:TO-252-2; Datasheet: https://www.vishay.com/docs/65594/sud50p04-08.pdf
pins: 1 G, 2 D, 3 S

## SUD50P06-15
designator *  value SUD50P06-15  Reference: Q
ki_keywords: TrenchFET P-Channel Power MOSFET; ki_description: 50A Id, 60V Vds, TrenchFET P-Channel Power MOSFET, 15mOhm Ron, 165nC Qg, -55 to 150 °C, TO-252-2; ki_fp_filters: TO?252*; Footprint: Package_TO_SOT_SMD:TO-252-2; Datasheet: https://www.vishay.com/docs/68940/sud50p06.pdf
pins: 1 G, 2 D, 3 S

## SUD50P08-25L
designator *  value SUD50P08-25L  Reference: Q
ki_keywords: TrenchFET P-Channel Power MOSFET; ki_description: 50A Id, 80V Vds, TrenchFET P-Channel Power MOSFET, 25.2mOhm Ron, 160nC Qg, -55 to 175 °C, TO-252-2; ki_fp_filters: TO?252*; Footprint: Package_TO_SOT_SMD:TO-252-2; Datasheet: https://www.vishay.com/docs/73443/sud50p08.pdf
pins: 1 G, 2 D, 3 S

## SUD50P10-43L
designator *  value SUD50P10-43L  Reference: Q
ki_keywords: TrenchFET P-Channel Power MOSFET; ki_description: 37A Id, 100V Vds, TrenchFET P-Channel Power MOSFET, 43mOhm Ron, 160nC Qg, -55 to 150 °C, TO-252-2; ki_fp_filters: TO?252*; Footprint: Package_TO_SOT_SMD:TO-252-2; Datasheet: https://www.vishay.com/docs/62504/sud50p10-43l-ge3.pdf
pins: 1 G, 2 D, 3 S

## TP0610L
designator *  value TP0610L  Reference: Q
ki_keywords: P-Channel MOSFET; ki_description: -0.18A Id, -60V Vds, P-Channel MOSFET, TO-92; ki_fp_filters: TO?92L*; Footprint: Package_TO_SOT_THT:TO-92L_Inline; Datasheet: http://www.vishay.com/docs/70209/70209.pdf
pins: 1 S, 2 G, 3 D

## TP0610T
designator *  value TP0610T  Reference: Q
ki_keywords: P-Channel MOSFET; ki_description: -0.18A Id, -60V Vds, P-Channel MOSFET, SOT-23; ki_fp_filters: SOT?23*; Footprint: Package_TO_SOT_SMD:SOT-23; Datasheet: http://www.vishay.com/docs/70209/70209.pdf
pins: 1 G, 2 S, 3 D

## TSM2301ACX
designator *  value TSM2301ACX  Reference: Q
ki_keywords: P-Channel MOSFET; ki_description: -2.8A Id, -20V Vds, P-Channel MOSFET, SOT-23; ki_fp_filters: SOT?23*; Footprint: Package_TO_SOT_SMD:SOT-23; Datasheet: https://www.taiwansemi.com/products/datasheet/TSM2301A_C15.pdf
pins: 1 G, 2 S, 3 D

## TSM2302CX
designator *  value TSM2302CX  Reference: Q
ki_keywords: N-Channel MOSFET; ki_description: 3.9A Id, 20V Vds, N-Channel MOSFET, SOT-23; ki_fp_filters: SOT?23*; Footprint: Package_TO_SOT_SMD:SOT-23; Datasheet: https://www.taiwansemi.com/products/datasheet/TSM2302CX_E1608.pdf
pins: 1 G, 2 S, 3 D

## VN10LF
designator *  value VN10LF  Reference: Q
ki_keywords: N-Channel MOSFET; ki_description: 0.15A Id, 60V Vds, N-Channel MOSFET, SOT-23; ki_fp_filters: SOT?23*; Footprint: Package_TO_SOT_SMD:SOT-23; Datasheet: http://www.diodes.com/assets/Datasheets/VN10LF.pdf
pins: 1 G, 2 S, 3 D

## VNP10N07
designator *  value VNP10N07  Reference: Q
ki_keywords: N-Channel Power MOSFET OMNIFET; ki_description: 10A Id, 70V Vds, N-Channel Power MOSFET, fully autoprotected, TO-220; ki_fp_filters: TO?220*; Footprint: Package_TO_SOT_THT:TO-220-3_Vertical; Datasheet: https://www.st.com/resource/en/datasheet/vnp10n07.pdf
pins: 1 G, 2 D, 3 S

## VP0610L
designator *  value VP0610L  Reference: Q
ki_keywords: P-Channel MOSFET; ki_description: -0.18A Id, -60V Vds, P-Channel MOSFET, TO-92; ki_fp_filters: TO?92L*; Footprint: Package_TO_SOT_THT:TO-92L_Inline; Datasheet: http://www.vishay.com/docs/70209/70209.pdf
pins: 1 S, 2 G, 3 D

## VP0610T
designator *  value VP0610T  Reference: Q
ki_keywords: P-Channel MOSFET; ki_description: -0.18A Id, -60V Vds, P-Channel MOSFET, SOT-23; ki_fp_filters: SOT?23*; Footprint: Package_TO_SOT_SMD:SOT-23; Datasheet: http://www.vishay.com/docs/70209/70209.pdf
pins: 1 G, 2 S, 3 D

## ZVN3306F
designator *  value ZVN3306F  Reference: Q
ki_keywords: N-Channel MOSFET; ki_description: 0.15A Id, 60V Vds, N-Channel MOSFET, SOT-23; ki_fp_filters: SOT?23*; Footprint: Package_TO_SOT_SMD:SOT-23; Datasheet: http://www.diodes.com/assets/Datasheets/ZVN3306F.pdf
pins: 1 G, 2 S, 3 D

## ZVN3310F
designator *  value ZVN3310F  Reference: Q
ki_keywords: N-Channel MOSFET; ki_description: 0.1A Id, 100V Vds, N-Channel MOSFET, SOT-23; ki_fp_filters: SOT?23*; Footprint: Package_TO_SOT_SMD:SOT-23; Datasheet: http://www.diodes.com/assets/Datasheets/ZVN3310F.pdf
pins: 1 G, 2 S, 3 D

## ZVN3320F
designator *  value ZVN3320F  Reference: Q
ki_keywords: N-Channel MOSFET; ki_description: 0.06A Id, 200V Vds, N-Channel MOSFET, SOT-23; ki_fp_filters: SOT?23*; Footprint: Package_TO_SOT_SMD:SOT-23; Datasheet: http://www.diodes.com/assets/Datasheets/ZVN3320F.pdf
pins: 1 G, 2 S, 3 D

## ZVN4106F
designator *  value ZVN4106F  Reference: Q
ki_keywords: N-Channel MOSFET; ki_description: 0.2A Id, 60V Vds, N-Channel MOSFET, SOT-23; ki_fp_filters: SOT?23*; Footprint: Package_TO_SOT_SMD:SOT-23; Datasheet: http://www.diodes.com/assets/Datasheets/ZVN4106F.pdf
pins: 1 G, 2 S, 3 D

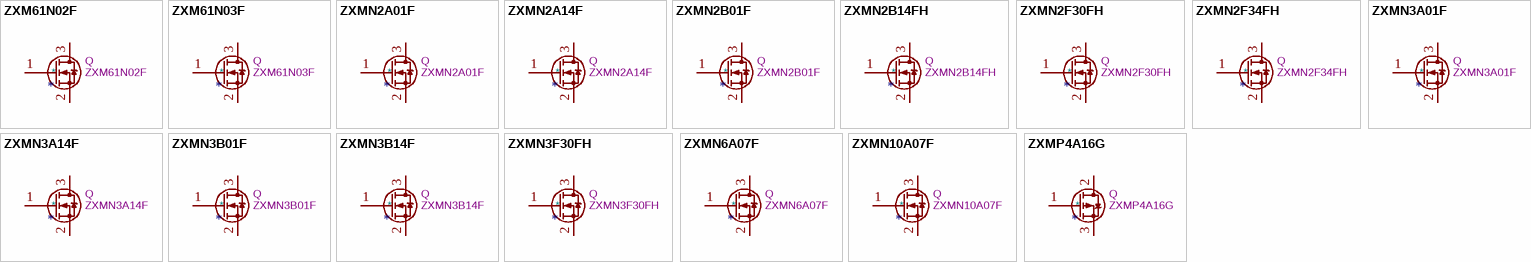
[diagram p13: symbols ZXM61N02F to ZXMP4A16G]

## ZXM61N02F
designator *  value ZXM61N02F  Reference: Q
ki_keywords: N-Channel MOSFET; ki_description: 1.7A Id, 20V Vds, N-Channel MOSFET, SOT-23; ki_fp_filters: SOT?23*; Footprint: Package_TO_SOT_SMD:SOT-23; Datasheet: http://www.diodes.com/assets/Datasheets/ZXM61N02F.pdf
pins: 1 G, 2 S, 3 D

## ZXM61N03F
designator *  value ZXM61N03F  Reference: Q
ki_keywords: N-Channel MOSFET; ki_description: 1.4A Id, 30V Vds, N-Channel MOSFET, SOT-23; ki_fp_filters: SOT?23*; Footprint: Package_TO_SOT_SMD:SOT-23; Datasheet: http://www.diodes.com/assets/Datasheets/ZXM61N03F.pdf
pins: 1 G, 2 S, 3 D

## ZXMN2A01F
designator *  value ZXMN2A01F  Reference: Q
ki_keywords: N-Channel MOSFET; ki_description: 2.2A Id, 20V Vds, N-Channel MOSFET, SOT-23; ki_fp_filters: SOT?23*; Footprint: Package_TO_SOT_SMD:SOT-23; Datasheet: http://www.diodes.com/assets/Datasheets/ZXMN2A01F.pdf
pins: 1 G, 2 S, 3 D

## ZXMN2A14F
designator *  value ZXMN2A14F  Reference: Q
ki_keywords: N-Channel MOSFET; ki_description: 4.1A Id, 20V Vds, N-Channel MOSFET, SOT-23; ki_fp_filters: SOT?23*; Footprint: Package_TO_SOT_SMD:SOT-23; Datasheet: http://www.diodes.com/assets/Datasheets/ZXMN2A14F.pdf
pins: 1 G, 2 S, 3 D

## ZXMN2B01F
designator *  value ZXMN2B01F  Reference: Q
ki_keywords: N-Channel MOSFET; ki_description: 2.4A Id, 20V Vds, N-Channel MOSFET, SOT-23; ki_fp_filters: SOT?23*; Footprint: Package_TO_SOT_SMD:SOT-23; Datasheet: http://www.diodes.com/assets/Datasheets/ZXMN2B01F.pdf
pins: 1 G, 2 S, 3 D

## ZXMN2B14FH
designator *  value ZXMN2B14FH  Reference: Q
ki_keywords: N-Channel MOSFET; ki_description: 4.3A Id, 20V Vds, N-Channel MOSFET, SOT-23; ki_fp_filters: SOT?23*; Footprint: Package_TO_SOT_SMD:SOT-23; Datasheet: http://www.diodes.com/assets/Datasheets/ZXMN2B14FH.pdf
pins: 1 G, 2 S, 3 D

## ZXMN2F30FH
designator *  value ZXMN2F30FH  Reference: Q
ki_keywords: N-Channel MOSFET; ki_description: 4.9A Id, 20V Vds, N-Channel MOSFET, SOT-23; ki_fp_filters: SOT?23*; Footprint: Package_TO_SOT_SMD:SOT-23; Datasheet: http://www.diodes.com/assets/Datasheets/ZXMN2F30FH.pdf
pins: 1 G, 2 S, 3 D

## ZXMN2F34FH
designator *  value ZXMN2F34FH  Reference: Q
ki_keywords: N-Channel MOSFET; ki_description: 4A Id, 20V Vds, N-Channel MOSFET, SOT-23; ki_fp_filters: SOT?23*; Footprint: Package_TO_SOT_SMD:SOT-23; Datasheet: http://www.diodes.com/assets/Datasheets/ZXMN2F34FH.pdf
pins: 1 G, 2 S, 3 D

## ZXMN3A01F
designator *  value ZXMN3A01F  Reference: Q
ki_keywords: N-Channel MOSFET; ki_description: 2A Id, 30V Vds, N-Channel MOSFET, SOT-23; ki_fp_filters: SOT?23*; Footprint: Package_TO_SOT_SMD:SOT-23; Datasheet: http://www.diodes.com/assets/Datasheets/ZXMN3A01F.pdf
pins: 1 G, 2 S, 3 D

## ZXMN3A14F
designator *  value ZXMN3A14F  Reference: Q
ki_keywords: N-Channel MOSFET; ki_description: 3.2A Id, 30V Vds, N-Channel MOSFET, SOT-23; ki_fp_filters: SOT?23*; Footprint: Package_TO_SOT_SMD:SOT-23; Datasheet: http://www.diodes.com/assets/Datasheets/ZXMN3A14F.pdf
pins: 1 G, 2 S, 3 D

## ZXMN3B01F
designator *  value ZXMN3B01F  Reference: Q
ki_keywords: N-Channel MOSFET; ki_description: 2A Id, 30V Vds, N-Channel MOSFET, SOT-23; ki_fp_filters: SOT?23*; Footprint: Package_TO_SOT_SMD:SOT-23; Datasheet: http://www.diodes.com/assets/Datasheets/ZXMN3B01F.pdf
pins: 1 G, 2 S, 3 D

## ZXMN3B14F
designator *  value ZXMN3B14F  Reference: Q
ki_keywords: N-Channel MOSFET; ki_description: 3.5A Id, 30V Vds, N-Channel MOSFET, SOT-23; ki_fp_filters: SOT?23*; Footprint: Package_TO_SOT_SMD:SOT-23; Datasheet: http://www.diodes.com/assets/Datasheets/ZXMN3B14F.pdf
pins: 1 G, 2 S, 3 D

## ZXMN3F30FH
designator *  value ZXMN3F30FH  Reference: Q
ki_keywords: N-Channel MOSFET; ki_description: 4.6A Id, 30V Vds, N-Channel MOSFET, SOT-23; ki_fp_filters: SOT?23*; Footprint: Package_TO_SOT_SMD:SOT-23; Datasheet: http://www.diodes.com/assets/Datasheets/ZXMN3F30FH.pdf
pins: 1 G, 2 S, 3 D

## ZXMN6A07F
designator *  value ZXMN6A07F  Reference: Q
ki_keywords: N-Channel MOSFET; ki_description: 1.4A Id, 60V Vds, N-Channel MOSFET, SOT-23; ki_fp_filters: SOT?23*; Footprint: Package_TO_SOT_SMD:SOT-23; Datasheet: http://www.diodes.com/assets/Datasheets/ZXMN6A07F.pdf
pins: 1 G, 2 S, 3 D

## ZXMN10A07F
designator *  value ZXMN10A07F  Reference: Q
ki_keywords: N-Channel MOSFET; ki_description: 0.76A Id, 100V Vds, N-Channel MOSFET, SOT-23; ki_fp_filters: SOT?23*; Footprint: Package_TO_SOT_SMD:SOT-23; Datasheet: http://www.diodes.com/assets/Datasheets/ZXMN10A07F.pdf
pins: 1 G, 2 S, 3 D

## ZXMP4A16G
designator *  value ZXMP4A16G  Reference: Q
ki_keywords: P-Channel MOSFET; ki_description: -6.4A Id, -40V Vds, P-Channel MOSFET, SOT-223; ki_fp_filters: SOT?223*; Footprint: Package_TO_SOT_SMD:SOT-223-3_TabPin2; Datasheet: https://www.diodes.com/assets/Datasheets/ZXMP4A16G.pdf
pins: 1 G, 2 D, 3 S